# Altium schematic symbol library MR5FT20L0.SchLib: 4 symbols
Pins are listed as number, name and electrical type; pins without a type are passive.

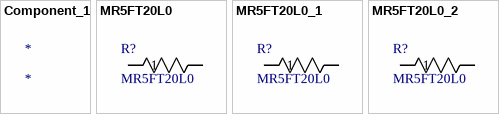
[diagram p0: symbols Component_1 to MR5FT20L0_2]

## Component_1
designator *

## MR5FT20L0
designator R?
No Description Available; Mfr_Name: Stackpole International; Copyright: Copyright (C) 2022 Ultra Librarian. All rights reserved.; Manufacturer_Part_Number: MR5FT20L0; Digi-Key_Part_Number_1: MR5FT20L0CT-ND; Digi-Key_Part_Number_2: MR5FT20L0TR-ND; RefDes: RefDes; Type: DEV
footprint STA_MR5_STP
pins: 1, 2

## MR5FT20L0_1
designator R?, comment MR5FT20L0
No Description Available; Mfr_Name: Stackpole International; Copyright: Copyright (C) 2022 Ultra Librarian. All rights reserved.; Manufacturer_Part_Number: MR5FT20L0; Digi-Key_Part_Number_1: MR5FT20L0CT-ND; Digi-Key_Part_Number_2: MR5FT20L0TR-ND; RefDes: RefDes; Type: DEV
footprint STA_MR5_STP
pins: 1, 2

## MR5FT20L0_2
designator R?, comment MR5FT20L0
No Description Available; Mfr_Name: Stackpole International; Copyright: Copyright (C) 2022 Ultra Librarian. All rights reserved.; Manufacturer_Part_Number: MR5FT20L0; Digi-Key_Part_Number_1: MR5FT20L0CT-ND; Digi-Key_Part_Number_2: MR5FT20L0TR-ND; RefDes: RefDes; Type: DEV
footprint STA_MR5_STP
pins: 1, 2